# Altium schematic symbol library Oscilloscope.SCHLIB: 41 symbols
Pins are listed as number, name and electrical type; pins without a type are passive.

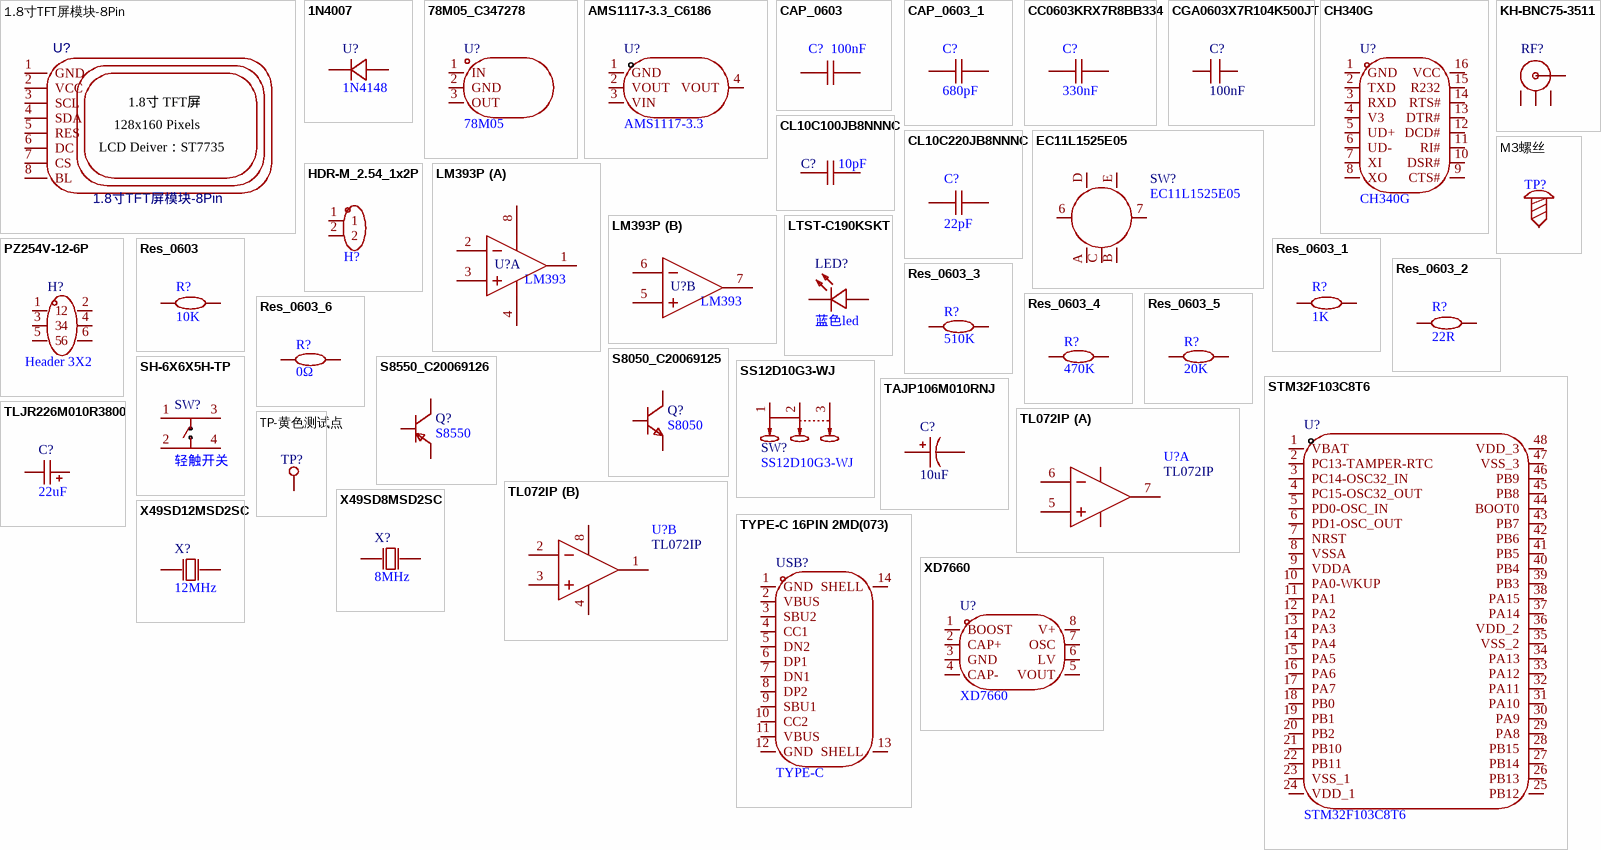
[diagram p0: symbols 1.8寸TFT屏模块-8Pin to XD7660]

## 1.8寸TFT屏模块-8Pin
designator U?
Convert to PCB: yes; Symbol: 1.8寸TFT屏模块-8Pin; Device: 1.8寸TFT屏模块-8Pin; Supplier Part: C2897371; Supplier: 立创商城; Add into BOM: yes; Origin Footprint: 1.8寸TFT屏模块-8PIN
footprint 1.8寸TFT屏模块-8PIN
pins: 1 GND, 2 VCC, 3 SCL, 4 SDA, 5 RES, 6 DC, 7 CS, 8 BL
text: 1.8寸 TFT屏; 128x160 Pixels; LCD Deiver：ST7735

## 1N4007
designator U?, comment 1N4148
Symbol: 1N4007_C9900004759; Device: 1N4007; Add into BOM: yes; LCSC Part Name: 1N4007; Supplier Part: C9900004759; Manufacturer Part: 1N4148; Supplier Footprint: SMA_L4.3-W2.6-LS5.1-RD; JLCPCB Part Class: Extended Part; Supplier: LCSC; Convert to PCB: yes
footprint SMA_L4.3-W2.6-LS5.1-RD
3D model SMA_L4.3-W2.6-LS5.1-RD
pins: 1 K, 2 A

## 78M05_C347278
designator U?, comment 78M05
Manufacturer: UMW(友台半导体); Symbol: UMW78M05; Device: 78M05_C347278; Add into BOM: yes; Output Type: 固定; Voltage - Supply: 35V; Output Voltage: 5V; Output Current: 1A; Power Supply Rejection Ratio (PSRR): 80dB@(120Hz); Voltage Dropout: 2V@(500mA); standby current: 6mA; Output Configuration: 正极; Number of Outputs: 1; LCSC Part Name: 输入35V 输出5V; Supplier Part: C347278; Manufacturer Part: 78M05; Supplier Footprint: TO-252; JLCPCB Part Class: 扩展库; Datasheet: https://atta.szlcsc.com/upload/public/pdf/source/20250624/2ED28F9D7FF713C883D8BAA10D92504A.pdf; Supplier: LCSC; Convert to PCB: yes; Features: 短路保护；过热保护; Operating Temperature: -20℃~+85℃
footprint TO-252-2_L6.6-W6.1-P4.57-LS9.9-BR-CW
3D model TO-252-2L-3P_L6.6-W6.1-H2.3-LS10.1-P4.6
pins: 1 IN, 2 GND, 3 OUT

## AMS1117-3.3_C6186
designator U?, comment AMS1117-3.3
Manufacturer: AMS; Device: AMS1117-3.3_C6186; Add into BOM: yes; Output Type: 固定; Voltage - Supply: 16V; Output Voltage: 3.3V; Output Current: 1A; Power Supply Rejection Ratio (PSRR): 72dB@(120Hz); Voltage Dropout: 1.1V@(800mA); standby current: 5mA; Output Configuration: 正极; Number of Outputs: 1; Symbol: AMS1117-3.3; LCSC Part Name: 输出3.3V 1A; Supplier Part: C6186; Manufacturer Part: AMS1117-3.3; Supplier Footprint: SOT-223; JLCPCB Part Class: 基础库; Datasheet: https://atta.szlcsc.com/upload/public/pdf/source/20180727/C6186_7A095716F0823C02F1997A905E26C086.pdf; Supplier: LCSC; Convert to PCB: yes; Noise: -; Features: 过流保护；过热保护; Operating Temperature: -40℃~+125℃
footprint SOT-223-3_L6.5-W3.4-P2.30-LS7.0-BR
3D model SOT-223-4P_L6.5-W3.5-H1.6-LS7.0-P2.30
pins: 1 GND, 2 VOUT, 3 VIN, 4 VOUT

## CAP_0603
designator C?, comment 100nF
Symbol: CapAcitance; Device: CAP_0603; Convert to PCB: yes; Add into BOM: yes; Supplier Footprint: 0603; Value: 100nF
footprint C0603
3D model C0603_L1.6-W0.8-H0.8
pins: 1, 2

## CAP_0603_1
designator C?, comment 680pF
Symbol: CapAcitance; Device: CAP_0603; Convert to PCB: yes; Add into BOM: yes; Supplier Footprint: 0603; Value: 680pF
footprint C0603
3D model C0603_L1.6-W0.8-H0.8
pins: 1, 2

## CC0603KRX7R8BB334
designator C?, comment 330nF
Manufacturer: YAGEO(国巨); Symbol: CapAcitance; Device: CC0603KRX7R8BB334; Add into BOM: yes; Tolerance: ±10%; Voltage Rated: 25V; Temperature Coefficient: X7R; LCSC Part Name: 330nF ±10% 25V; Supplier Part: C107070; Manufacturer Part: CC0603KRX7R8BB334; Supplier Footprint: 0603; JLCPCB Part Class: Extended Part; Datasheet: https://atta.szlcsc.com/upload/public/pdf/source/20180910/C282072_33301C7F631E79921B82A8DAC6BCC5B3.pdf; Supplier: LCSC; Convert to PCB: yes; Value: 330nF
footprint C0603
3D model C0603_L1.6-W0.8-H0.8
pins: 1, 2

## CGA0603X7R104K500JT
designator C?, comment 100nF
Manufacturer: HRE(芯声); Symbol: CT4-0805B104K500F1; Device: CGA0603X7R104K500JT; Add into BOM: yes; Tolerance: ±10%; Voltage Rating: 50V; Temperature Coefficient: X7R; LCSC Part Name: 100nF ±10% 50V; Supplier Part: C6119867; Manufacturer Part: CGA0603X7R104K500JT; Supplier Footprint: 0603; JLCPCB Part Class: Extended Part; Datasheet: https://atta.szlcsc.com/upload/public/pdf/source/20250103/C44077DA9E7B3EFAE02F22B6D3D1CBC9.pdf; Supplier: LCSC; Convert to PCB: yes; Value: 100nF
footprint C0603
3D model C0603_L1.6-W0.8-H0.8
pins: 1, 2

## CH340G
designator U?
Manufacturer: WCH(南京沁恒); Add into BOM: yes; Applications Function: USB转UART; Protocol: USB 2.0; Supply Voltage: 5V；3.3V; Data Rate: 2Mbps; Symbol: CH340G; Device: CH340G; LCSC Part Name: USB转串口芯片CH340; Supplier Part: C14267; Manufacturer Part: CH340G; Supplier Footprint: SOP-16; JLCPCB Part Class: 扩展库; Datasheet: https://atta.szlcsc.com/upload/public/pdf/source/20240313/8510303D24D987FBF1AD30058571F10E.pdf; Supplier: LCSC; Convert to PCB: yes; Operating Temperature: -40℃~+85℃
footprint SOIC-16_L9.9-W3.9-P1.27-LS6.0-BL
3D model SOIC-16_L9.9-W3.9-H1.8-LS6.0-P1.27
pins: 1 GND, 2 TXD, 3 RXD, 4 V3, 5 UD+, 6 UD-, 7 XI, 8 XO, 9 CTS#, 10 DSR#, 11 RI#, 12 DCD#, 13 DTR#, 14 RTS#, 15 R232, 16 VCC

## CL10C100JB8NNNC
designator C?, comment 10pF
Manufacturer: SAMSUNG(三星); Symbol: N06A1B100KN0B0S0N0; Device: CL10C100JB8NNNC; Add into BOM: yes; Tolerance: ±5%; Voltage Rated: 50V; Temperature Coefficient: C0G; LCSC Part Name: 10pF ±5% 50V; Supplier Part: C1634; Manufacturer Part: CL10C100JB8NNNC; Supplier Footprint: 0603; JLCPCB Part Class: Basic Part; Datasheet: https://atta.szlcsc.com/upload/public/pdf/source/20160218/1457707763339.pdf; Supplier: LCSC; Convert to PCB: yes; Value: 10pF
footprint C0603
3D model C0603_L1.6-W0.8-H0.8
pins: 1, 2

## CL10C220JB8NNNC
designator C?, comment 22pF
Manufacturer: SAMSUNG(三星); Symbol: CapAcitance; Device: CL10C220JB8NNNC; Add into BOM: yes; Tolerance: ±5%; Voltage Rated: 50V; Temperature Coefficient: C0G; LCSC Part Name: 22pF ±5% 50V; Supplier Part: C1653; Manufacturer Part: CL10C220JB8NNNC; Supplier Footprint: 0603; JLCPCB Part Class: Basic Part; Datasheet: https://atta.szlcsc.com/upload/public/pdf/source/20160218/1457707763339.pdf; Supplier: LCSC; Convert to PCB: yes; Value: 22pF
footprint C0603
3D model C0603_L1.6-W0.8-H0.8
pins: 1, 2

## EC11L1525E05
designator SW?
Manufacturer: ALPSALPINE(阿尔卑斯阿尔派); Add into BOM: yes; Symbol: EC11L1525E05; Device: EC11L1525E05; LCSC Part Name: 编码器 停产; Supplier Part: C2687298; Manufacturer Part: EC11L1525E05; Supplier Footprint: 插件; JLCPCB Part Class: Extended Part; Datasheet: https://atta.szlcsc.com/upload/public/pdf/source/20210222/C2687298_D85F935961A23A0DB1B474C7A2A10B19.pdf; Supplier: LCSC; Convert to PCB: yes
footprint SW-TH_EC11L1525E05
3D model SW-TH_EC11L1525E05
pins: 6 EH, 7 EH, A, B, C, D, E

## HDR-M_2.54_1x2P
designator H?
Symbol: 210S-1*2P L=11.6MMGold-plated black; Device: HDR-M_2.54_1x2P; Convert to PCB: yes; Add into BOM: yes; Supplier Part: C124375; Supplier Footprint: 插件
footprint HDR-TH_2P-P2.54-V-M-1
3D model HDR-M-2.54_1x2
pins: 1, 2

## KH-BNC75-3511
designator RF?
Manufacturer: kinghelm(金航标); Symbol: KH-BNC75-3511; Add into BOM: yes; Connector Type: 板端; RF Series: BNC; Interface Type: 内孔; Number of Ports: 1; Impedance: 75Ω; Frequency-Max: 3GHz; Style: 弯头; Interface Diameter: 9.5mm; Device: KH-BNC75-3511; LCSC Part Name: BNC 内孔 弯头; Supplier Part: C2837587; Manufacturer Part: KH-BNC75-3511; Supplier Footprint: 插件; JLCPCB Part Class: Extended Part; Datasheet: https://atta.szlcsc.com/upload/public/pdf/source/20210608/C2837588_F39E24707EBCDC367432B410E607DF01.pdf; Supplier: LCSC; Convert to PCB: yes; Interface Length/Height: -; Operating Temperature Range: -55~+155
footprint ANT-TH_KH-BNC75-3511
3D model ANT-TH_KH-BNC75-3511
pins: 1 OUT, 2, 3, 4

## LM393P
designator U?  Manufacturer Part: LM393
Manufacturer: HGSEMI(华冠); Symbol: LM393P; Add into BOM: yes; Number of Elements: 2; Supply Voltage（Single）: 2V~36V,±1V~18V; Iq per channel (Typ): 2.5mA; Output Type: CMOS, MOS, Open-Collector, TTL; Device: LM393P; LCSC Part Name: LM393P; Supplier Part: C725322; Supplier Footprint: DIP-8; JLCPCB Part Class: 扩展库; Datasheet: https://atta.szlcsc.com/upload/public/pdf/source/20120424/1457706480158.pdf; Supplier: LCSC; Convert to PCB: yes; Propagation Delay (Max): -; Operating Temperature: 0°C ~ 70°C
footprint DIP-8_L10.1-W6.3-P2.54-LS7.6-BL-1
3D model DIP-8_L10.1-W6.3-P2.54-LS7.6-BL-1
part A pins: 1 1OUT, 2 1IN-, 3 1IN+, 4 GND, 8 VCC
part B pins: 5 2IN+, 6 2IN-, 7 2OUT

## LTST-C190KSKT
designator LED?, comment 蓝色led
Manufacturer: LITEON(光宝); Symbol: LTST-C190KSKT; Add into BOM: yes; Emitted Color: 黄色; Forward Voltage (VF): 2.1V; Power Dissipation: 75mW; Forward Current: 20mA; Dominant Wavelength: 584.5nm~597nm; Peak Wavelength: 588nm; Lens Color: 无色透明透镜; Luminous Intensity: 104mcd; Viewing Angle: 130°; Device: LTST-C190KSKT; LCSC Part Name: 黄灯; Supplier Part: C125095; Manufacturer Part: 蓝色led; Supplier Footprint: 0603; JLCPCB Part Class: 扩展库; Datasheet: https://atta.szlcsc.com/upload/public/pdf/source/20180129/C125095_15171881843821315881.pdf; Supplier: LCSC; Convert to PCB: yes; Diode Configuration: -; Color Temperature: -; Mounting Sytle: -; Operating Temperature: -30℃~+85℃
footprint LED0603-RD
3D model LED0603-RD
pins: 1 -, 2 +

## M3螺丝
designator TP?
Symbol: 螺丝孔; Device: M3螺丝; Convert to PCB: yes; Add into BOM: no; Supplier Footprint: 插件
footprint M3螺丝
pins: 1

## PZ254V-12-6P
designator H?, comment Header 3X2
Manufacturer: XFCN(兴飞); Symbol: PZ254V-12-6P; Add into BOM: yes; Pin Structure: 2x3P; Pitch: 2.54mm; Circluar Pins/Square Pins: 方针; Device: PZ254V-12-6P; LCSC Part Name: 间距:2.54mm 2x3P 直插 方针; Supplier Part: C492420; Manufacturer Part: Header 3X2; Supplier Footprint: 插件,P=2.54mm; JLCPCB Part Class: 扩展库; Datasheet: https://atta.szlcsc.com/upload/public/pdf/source/20200309/C492420_BAECB307B001054C09D200388220EAE6.pdf; Supplier: LCSC; Convert to PCB: yes; Row Spacing: 2.54mm; Mounting Type: 直插; Number of Rows: 双排; Number of Pins: 6P; Current Rating (Max): -; Voltage Rating (Max): -; Length of Mating Pin: 6mm; Insulation Height: 2.5mm; Length of End Connection Pin: 3mm; Contact Material: 黄铜; Contact Plating: -; Operating Temperature Range: -40℃~+105℃; Color: 黑色
footprint HDR-TH_6P-P2.54-V-M-R2-C3-S2.54
3D model HDR-TH_6P-P2.54-V-M-R2-C3-S2.54
pins: 1, 2, 3, 4, 5, 6

## Res_0603
designator R?, comment 10K
Symbol: 电阻; Device: Res_0603; Convert to PCB: yes; Add into BOM: yes; Supplier Footprint: 0603; Value: 10K
footprint R0603
3D model R0603
pins: 1, 2

## Res_0603_1
designator R?, comment 1K
Symbol: 电阻; Device: Res_0603; Convert to PCB: yes; Add into BOM: yes; Supplier Footprint: 0603; Value: 1K
footprint R0603
3D model R0603
pins: 1, 2

## Res_0603_2
designator R?, comment 22R
Symbol: 电阻; Device: Res_0603; Convert to PCB: yes; Add into BOM: yes; Supplier Footprint: 0603; Value: 22R
footprint R0603
3D model R0603
pins: 1, 2

## Res_0603_3
designator R?, comment 510K
Symbol: 电阻; Device: Res_0603; Convert to PCB: yes; Add into BOM: yes; Supplier Footprint: 0603; Value: 510K
footprint R0603
3D model R0603
pins: 1, 2

## Res_0603_4
designator R?, comment 470K
Symbol: 电阻; Device: Res_0603; Convert to PCB: yes; Add into BOM: yes; Supplier Footprint: 0603; Value: 470K
footprint R0603
3D model R0603
pins: 1, 2

## Res_0603_5
designator R?, comment 20K
Symbol: 电阻; Device: Res_0603; Convert to PCB: yes; Add into BOM: yes; Supplier Footprint: 0603; Value: 20K
footprint R0603
3D model R0603
pins: 1, 2

## Res_0603_6
designator R?, comment 0Ω
Symbol: 电阻; Device: Res_0603; Convert to PCB: yes; Add into BOM: yes; Supplier Footprint: 0603; Value: 0Ω
footprint R0603
3D model R0603
pins: 1, 2

## S8050_C20069125
designator Q?, comment S8050
Manufacturer: 宏嘉诚; Symbol: S8050_C20069125; Add into BOM: yes; type: NPN; Current - Collector(Ic): 500mA; Collector - Emitter Voltage VCEO: 25V; Pd - Power Dissipation: 300mW; DC Current Gain: 120@50mA,1.0V; Transition frequency(fT): 100MHz; Current - Collector Cutoff: 100nA; Vce Saturation(VCE(sat)): 600mV; Device: S8050_C20069125; LCSC Part Name: hFE:200-350，丝印:J3Y S8050; Supplier Part: C20069125; Manufacturer Part: S8050; Supplier Footprint: SOT-23; JLCPCB Part Class: 扩展库; Datasheet: https://atta.szlcsc.com/upload/public/pdf/source/20250107/343E8B94B5C24D0D65D7D4B70E0B73F6.pdf; Supplier: LCSC; Convert to PCB: yes; Operating Temperature: -55℃~+150℃
footprint SOT-23-3_L2.9-W1.3-P1.90-LS2.3-BR
3D model SOT-23-3_L2.9-W1.3-P1.90-LS2.3-BR
pins: 1 B, 2 E, 3 C

## S8550_C20069126
designator Q?, comment S8550
Manufacturer: 宏嘉诚; Symbol: S8550_C20069126; Add into BOM: yes; type: PNP; Current - Collector(Ic): 500mA; Collector - Emitter Voltage VCEO: 25V; Pd - Power Dissipation: 300mW; DC Current Gain: 120@500mA,1.0V; Transition frequency(fT): 150MHz; Current - Collector Cutoff: 100nA; Vce Saturation(VCE(sat)): 500mV; Device: S8550_C20069126; LCSC Part Name: hFE:200-350，丝印:2TY S8550; Supplier Part: C20069126; Manufacturer Part: S8550; Supplier Footprint: SOT-23; JLCPCB Part Class: 扩展库; Datasheet: https://atta.szlcsc.com/upload/public/pdf/source/20250107/6DAD7E9AA702AA129A4A0106BAAB5F5A.pdf; Supplier: LCSC; Convert to PCB: yes; Operating Temperature: -55℃~+150℃
footprint SOT-23-3_L2.9-W1.3-P1.90-LS2.4-BR
3D model SOT-23-3P_L2.9-W1.3-H1.0-LS2.4-P0.95
pins: 1 B, 2 E, 3 C

## SH-6X6X5H-TP
designator SW?, comment 轻触开关
Manufacturer: SHOU HAN(首韩); Symbol: SH-6X6X5H-TP; Add into BOM: yes; Device: SH-6X6X5H-TP; LCSC Part Name: 6*6/6x6 轻触开关; Supplier Part: C42416254; Manufacturer Part: 轻触开关; Supplier Footprint: SMD-4P,6x6mm; JLCPCB Part Class: 扩展库; Datasheet: https://atta.szlcsc.com/upload/public/pdf/source/20250103/936B092E53F0D152C46176A6F02D2A6B.pdf; Supplier: LCSC; Convert to PCB: yes
footprint SW-SMD_SH-6X6X4.5H-TP
3D model SW-SMD_SH-6X6X4.5H-TP
pins: 1, 2, 3, 4

## SS12D10G3-WJ
designator SW?
Manufacturer: SHOU HAN(首韩); Symbol: SS-12D10L5; Add into BOM: yes; Circuit: 单刀双掷; Switch Length: 12.7mm; Switch Width: 6.7mm; Current Rating (DC): 2A; Voltage Rating (DC): 125V; Mechanical Life: 3千次; Device: SS12D10G3-WJ; LCSC Part Name: 两档卧式插件 3脚拨动开关弯插 柄长3.0mm; Supplier Part: C7431056; Manufacturer Part: SS12D10G3-WJ; Supplier Footprint: 插件; JLCPCB Part Class: Extended Part; Datasheet: https://atta.szlcsc.com/upload/public/pdf/source/20230621/84EB0BBB436606EF3B83C38A13C3295C.pdf; Supplier: LCSC; Convert to PCB: yes; Mounting Style: 直插; Operating Temperature: -25℃~+70℃
footprint SW-TH_3P-P4.80_HX-SS12D10G3-WJ
3D model SW-TH_3P-P4.80_HX-SS12D10G3-WJ
pins: 1, 2, 3

## STM32F103C8T6
designator U?
Manufacturer: ST(意法半导体); Add into BOM: yes; CPU Core: ARM-M3; CPU Maximum Speed: 72MHz; Program Storage Size: 64KB; Program Memory Type: FLASH; Number of I/O: 37; ADC (Bit): 12bit; Voltage - Supply: 2V~3.6V; Symbol: STM32F103C8T6; Device: STM32F103C8T6; LCSC Part Name: 主流增强型ARM Cortex-M3 MCU，具有64 KB Flash、72 MHz CPU、电机控制、USB和CAN; Supplier Part: C8734; Manufacturer Part: STM32F103C8T6; Supplier Footprint: LQFP-48(7x7); JLCPCB Part Class: 扩展库; Datasheet: https://atta.szlcsc.com/upload/public/pdf/source/20220812/8363ACEC51AD55ECEB84799464F7CB85.pdf; Supplier: LCSC; Convert to PCB: yes; Applications: -
footprint LQFP-48_L7.0-W7.0-P0.50-LS9.0-BL
3D model LQFP-48_L7.0-W7.0-H1.4-LS9.0-P0.50
pins: 1 VBAT, 2 PC13-TAMPER-RTC, 3 PC14-OSC32_IN, 4 PC15-OSC32_OUT, 5 PD0-OSC_IN, 6 PD1-OSC_OUT, 7 NRST, 8 VSSA, 9 VDDA, 10 PA0-WKUP, 11 PA1, 12 PA2, 13 PA3, 14 PA4, 15 PA5, 16 PA6, 17 PA7, 18 PB0, 19 PB1, 20 PB2, 21 PB10, 22 PB11, 23 VSS_1, 24 VDD_1, 25 PB12, 26 PB13, 27 PB14, 28 PB15, 29 PA8, 30 PA9, 31 PA10, 32 PA11, 33 PA12, 34 PA13, 35 VSS_2, 36 VDD_2, 37 PA14, 38 PA15, 39 PB3, 40 PB4, 41 PB5, 42 PB6, 43 PB7, 44 BOOT0, 45 PB8, 46 PB9, 47 VSS_3, 48 VDD_3

## TAJP106M010RNJ
designator C?, comment 10uF
Manufacturer: Kyocera AVX; Symbol: 01EC1809SHC10UF50V; Device: TAJP106M010RNJ; Add into BOM: yes; Tolerance: ±20%; Voltage Rated: 10V; Equivalent Series Resistance(ESR): 6Ω; Supplier: LCSC; Supplier Part: C1952866; Manufacturer Part: TAJP106M010RNJ; JLCPCB Part Class: Extended Part; LCSC Part Name: 10uF ±20% 10V; Supplier Footprint: 0805; Datasheet: https://atta.szlcsc.com/upload/public/pdf/source/20200508/C528414_E7647BF5233468AE8B10D12AED045AE0.pdf; Convert to PCB: yes; Current - Leakage: -; Ripple Current: -; Operating Temperature: -55℃~+125℃; Value: 10uF
footprint CAP-SMD_L2.1-W1.4-FD
3D model CAP-SMD_L2.1-W1.4-FD
pins: 1, 2

## TL072IP
designator U?  Device: TL072IP
Manufacturer: TI(德州仪器); Add into BOM: yes; Number of Circuits: 2; Gain Bandwidth Product(GBP): 3MHz; Slew Rate(SR): 13V/us; Supply Current Per Channel: 1.4mA; Symbol: TL072IP; LCSC Part Name: TL072IP; Supplier Part: C110329; Manufacturer Part: TL072IP; Supplier Footprint: PDIP-8; JLCPCB Part Class: 扩展库; Datasheet: https://atta.szlcsc.com/upload/public/pdf/source/20170919/C110329_1505787021678976659.pdf; Supplier: LCSC; Convert to PCB: yes; Operating Temperature: -40℃~+85℃
footprint PDIP-8_L9.3-W6.4-P2.54-LS7.6-BL
3D model PDIP-8_L10.2-W5.9-H4.5-P2.54-LS7.6-BL
part A pins: 5 IN2+, 6 IN2-, 7 OUT2
part B pins: 1 OUT1, 2 IN1-, 3 IN1+, 4 VCC-, 8 VCC+

## TLJR226M010R3800
designator C?, comment 22uF
Manufacturer: Kyocera AVX; Symbol: TAJA226K010RNJ; Device: TLJR226M010R3800; Add into BOM: yes; Tolerance: ±20%; Voltage Rated: 10V; Equivalent Series Resistance(ESR): 3.8Ω; LCSC Part Name: 22uF ±20% 10V; Supplier Part: C1954754; Manufacturer Part: TLJR226M010R3800; Supplier Footprint: 0805; JLCPCB Part Class: Extended Part; Datasheet: https://atta.szlcsc.com/upload/public/pdf/source/20210703/8B69E0E679BE21BB8A360EF7A68B4CB4.pdf; Supplier: LCSC; Convert to PCB: yes; Value: 22uF; Leakage Current(DCL): -; Ripple Current: -; Operating Temperature: -55℃~+125℃
footprint CAP-SMD_L2.0-W1.3-FD
3D model CAP-SMD_L2.0-W1.3-FD
pins: 1, 2

## TP-黄色测试点
designator TP?  (value not drawn)
Add into BOM: no; Convert to PCB: yes; Symbol: TP-黄色测试点; Device: TP-黄色测试点; LCSC Part Name: TP-黄色测试点; Supplier Part: C9900007422; Manufacturer Part: TP-黄色测试点; Supplier Footprint: TESTPOINT-TH_BD-2P-P2.00; JLCPCB Part Class: 扩展库; Datasheet: https://atta.szlcsc.comnull; Supplier: LCSC
footprint TESTPOINT-TH_BD3.2
3D model TESTPOINT-TH_BD3.2
pins: 1

## TYPE-C 16PIN 2MD(073)
designator USB?, comment TYPE-C
Manufacturer: SHOU HAN(首韩); Symbol: TYPE-C 16PIN 2MD(073); Add into BOM: yes; Protocol Standard: USB 3.1; Gender: 母; Number of Contacts: 16P; Number of Ports: 1; Current Rating-Power: 3A; Voltage Rating: 5V; Connect-Disconnect Life: 5千次; Detection color: 黑色; Device: TYPE-C 16PIN 2MD(073); LCSC Part Name: Type-C 母 卧贴; Supplier Part: C2765186; Manufacturer Part: TYPE-C; Supplier Footprint: SMD; JLCPCB Part Class: 扩展库; Datasheet: https://atta.szlcsc.com/upload/public/pdf/source/20250506/FFB74EDFDFA0AC372CE4A8E4F739CCEF.pdf; Supplier: LCSC; Convert to PCB: yes; Connector Type: Type-C; Mounting Type: 卧贴; Supplementary Features: -; Center Height: -; Length: -; Operating Temperature: -25℃~+85℃
footprint USB-C-SMD_TYPE-C-6PIN-2MD-073
3D model USB-C-SMD_TYPE-C-6PIN-2MD-073
pins: 1 GND, 2 VBUS, 3 SBU2, 4 CC1, 5 DN2, 6 DP1, 7 DN1, 8 DP2, 9 SBU1, 10 CC2, 11 VBUS, 12 GND, 13 SHELL, 14 SHELL

## X49SD8MSD2SC
designator X?, comment 8MHz
Manufacturer: YXC(扬兴晶振); Symbol: X49SD8MSD2SC; Add into BOM: yes; Normal temperature Frequency Tolerance: ±20ppm; Load Capacitance: 20pF; Frequency Stability: ±30ppm; Device: X49SD8MSD2SC; LCSC Part Name: HC-49US 8MHZ 2P 49S 20PF ±20PPM -20~70℃ (±30PPM); Supplier Part: C21263; Manufacturer Part: X49SD8MSD2SC; Supplier Footprint: HC-49S; JLCPCB Part Class: 扩展库; Datasheet: https://atta.szlcsc.com/upload/public/pdf/source/20240329/977D7F2434F98B2BE33270BB9FF3D86D.pdf; Supplier: LCSC; Convert to PCB: yes; Type: 直插晶振; Value: 8MHz; Operating Temperature: -20℃~+70℃
footprint OSC-TH_L10.0-W4.5-P5.00
3D model HC-49US_L11.0-W4.5-H3.5-P4.88
pins: 1 OSC1, 2 OSC2

## X49SD12MSD2SC
designator X?, comment 12MHz
Manufacturer: YXC(扬兴晶振); Symbol: X49SD8MSD2SC; Device: X49SD12MSD2SC; Add into BOM: yes; Normal temperature Frequency Tolerance: ±20ppm; Load Capacitance: 20pF; Frequency Stability: ±30ppm; LCSC Part Name: HC-49US 12MHZ 2P 49S 20PF ±20PPM -20~70℃（±30PPM）; Supplier Part: C16369; Manufacturer Part: X49SD12MSD2SC; Supplier Footprint: HC-49S; JLCPCB Part Class: Extended Part; Datasheet: https://atta.szlcsc.com/upload/public/pdf/source/20240329/977D7F2434F98B2BE33270BB9FF3D86D.pdf; Supplier: LCSC; Convert to PCB: yes; Type: 直插晶振; Value: 12MHz; Operating Temperature: -20℃~+70℃
footprint HC-49US_L11.5-W4.5-P4.88
3D model HC-49US_L11.0-W4.5-H3.5-P4.88
pins: 1 OSC1, 2 OSC2

## XD7660
designator U?
Manufacturer: XINLUDA(信路达); Add into BOM: yes; Symbol: XD7660; Device: XD7660; LCSC Part Name: XD7660; Supplier Part: C521200; Manufacturer Part: XD7660; Supplier Footprint: DIP-8; JLCPCB Part Class: 扩展库; Datasheet: https://atta.szlcsc.com/upload/public/pdf/source/20211222/A10DD3C2ED176FBA4174F4F58C348BA3.pdf; Supplier: LCSC; Convert to PCB: yes
footprint DIP-8_L9.7-W6.4-P2.54-LS7.6-BL
3D model DIP-8_L9.8-W6.6-H3.5-LS7.62-P2.54
pins: 1 BOOST, 2 CAP+, 3 GND, 4 CAP-, 5 VOUT, 6 LV, 7 OSC, 8 V+

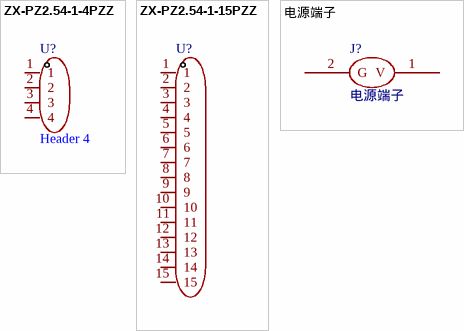
[diagram p1: symbols ZX-PZ2.54-1-4PZZ to 电源端子]

## ZX-PZ2.54-1-4PZZ
designator U?, comment Header 4
Manufacturer: Megastar(兆星); Symbol: ZX-PZ2.54-1-4PZZ; Add into BOM: yes; Pin Structure: 1x4P; Pitch: 2.54mm; Circluar Pins/Square Pins: 方针; Current Rating: 3A; Device: ZX-PZ2.54-1-4PZZ; LCSC Part Name: 1x4P 间距:2.54mm 方针 直插; Supplier Part: C7501262; Manufacturer Part: Header 4; Supplier Footprint: 插件,P=2.54mm; JLCPCB Part Class: 扩展库; Datasheet: https://atta.szlcsc.com/upload/public/pdf/source/20231122/4E787E5D6BDB0EA5477973D5EC6E573B.pdf; Supplier: LCSC; Convert to PCB: yes; Row Spacing: -; Mounting Type: 直插; Number of Rows: 单排; Number of Pins: 4P; Voltage Rating (Max): -; Length of Mating Pin: 6mm; Insulation Height: 2.5mm; Length of End Connection Pin: 3mm; Contact Material: 黄铜; Contact Plating: 金; Operating Temperature: -40℃~+105℃; Color: 黑色
footprint HDR-TH_4P-P2.54-V-M
3D model HDR-TH_4P-P2.54-M-LI-1X4P
pins: 1, 2, 3, 4

## ZX-PZ2.54-1-15PZZ
designator U?
Manufacturer: Megastar(兆星); Symbol: ZX-PZ2.54-1-15PZZ; Add into BOM: yes; Pin Structure: 1x15P; Pitch: 2.54mm; Circluar Pins/Square Pins: 方针; Current Rating: 3A; Device: ZX-PZ2.54-1-15PZZ; LCSC Part Name: 1x15P 间距:2.54mm 方针 直插; Supplier Part: C7501269; Supplier Footprint: 插件,P=2.54mm; JLCPCB Part Class: 扩展库; Datasheet: https://atta.szlcsc.com/upload/public/pdf/source/20231122/A1A587BCB61FD4E661A7B23F28C6B7B8.pdf; Supplier: LCSC; Convert to PCB: yes; Row Spacing: -; Mounting Type: 直插; Number of Rows: 单排; Number of Pins: 15P; Voltage Rating (Max): -; Length of Mating Pin: 6mm; Insulation Height: 2.5mm; Length of End Connection Pin: 3mm; Contact Material: 黄铜; Contact Plating: 金; Operating Temperature: -40℃~+105℃; Color: 黑色
footprint HDR-TH_15P-P2.54-V-M
3D model HDR-TH_15P-P2.54-M-LI-1X15P
pins: 1, 2, 3, 4, 5, 6, 7, 8, 9, 10, 11, 12, 13, 14, 15

## 电源端子
designator J?
Add into BOM: yes; Origin Footprint: 2.54-1x2p; Symbol: 电源端子; Device: 电源端子; Convert to PCB: yes; Design Item ID: 电源端子; Library Name: wk
footprint 2.54-1x2p
pins: 1 V, 2 G